# Altium integrated library A4988.IntLib: 1 symbol
Pins are listed as number, name and electrical type; pins without a type are passive.

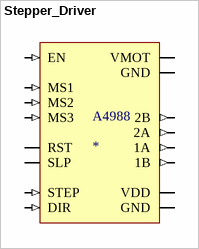
[diagram p0: symbol Stepper_Driver]

## Stepper_Driver
designator A4988
footprint PCBComponent_1
footprint A4988
pins: 1 EN (in) "(De)aktivieren des Treibers", 2 MS1 (in) "Einstellen Microsteps", 3 MS2 (in) "Einstellen Microsteps", 4 MS3 (in) "Einstellen Microsteps", 5 RST "Reset", 6 SLP "Sleep", 7 STEP (in) "Step-Pin", 8 DIR (in) "Step-Richtung", 9 VMOT (power) "Versorgung Motor", 10 GND (power) "Versorgung Treiber", 11 2B (out) "Spule 2", 12 2A (out) "Spule 2", 13 1A (out) "Spule 1", 14 1B (out) "Spule 1", 15 VDD (power) "Versorgung Treiber", 16 GND (power) "Versorgung Motor"